# Altium footprint library 功率放大器.PcbLib: 2 footprints
Each footprint in its own frame and in the unit in brackets; x right, y up, seen from the top. Pads: shape width x height; smd on the part's side, far side on the other; paste and mask are expansions set on the pad; w line width, h text height; cw(c..) or ccw(c..) is an arc to the next point about the centre after c.
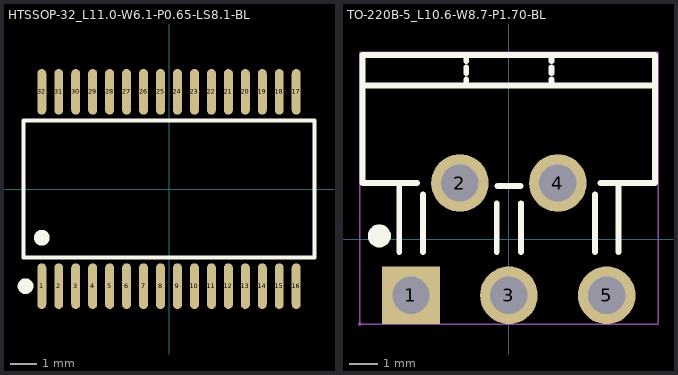
[diagram p0: the footprints below, top view; thin cyan lines are the x and y axes]

## HTSSOP-32_L11.0-W6.1-P0.65-LS8.1-BL [mm]
pads (32):
  oval 0.343x1.747 smd: 1(-4.875,-3.723) 2(-4.225,-3.723) 3(-3.575,-3.723) 4(-2.925,-3.723) 5(-2.275,-3.723) 6(-1.625,-3.723) 7(-0.975,-3.723) 8(-0.325,-3.723) 9(0.325,-3.723) 10(0.975,-3.723) 11(1.625,-3.723) 12(2.275,-3.723) 13(2.925,-3.723) 14(3.575,-3.723) 15(4.225,-3.723) 16(4.875,-3.723) 17(4.875,3.723) 18(4.225,3.723) 19(3.575,3.723) 20(2.925,3.723) 21(2.275,3.723) 22(1.625,3.723) 23(0.975,3.723) 24(0.325,3.723) 25(-0.325,3.723) 26(-0.975,3.723) 27(-1.625,3.723) 28(-2.275,3.723) 29(-2.925,3.723) 30(-3.575,3.723) 31(-4.225,3.723) 32(-4.875,3.723)
Top Overlay:
  circle w0.3: c-4.875,-1.869 r0.15
  circle w0.3: c-5.499,-3.723 r0.15
  lines w0.152: -5.576,-2.621 -5.576,2.622 5.576,2.622 5.576,-2.621 -5.576,-2.621
3D body "U1.step": height 1.3, standoff 0, extent -5.5,-4.056 5.5,4.056

## TO-220B-5_L10.6-W8.7-P1.70-BL [mm]
pads (5):
  rect 2x2 hole 1.3 paste-2539.97 mask+0.051: 1(-3.4,-1.95)
  round 2 hole 1.3 paste-2539.97 mask+0.051: 2(-1.7,1.95) 3(0,-1.95) 4(1.7,1.949) 5(3.4,-1.95)
Top Overlay:
  lines w0.2: -5.08,5.335 5.08,5.335 ; -3.81,-0.45 -3.81,1.949 ; -3.187,1.949 -5.08,1.949 -5.08,6.394 5.08,6.394 5.08,1.949 3.187,1.949 ; -2.987,-0.45 -2.987,1.55 ; -1.482,5.335 -1.482,5.547 ; -1.482,5.759 -1.482,5.97 ; -1.482,6.182 -1.482,6.394 ; -0.423,-0.45 -0.423,1.25 ; 0.423,-0.45 0.423,1.25 ; 1.482,5.335 1.482,5.547 ; 1.482,5.759 1.482,5.97 ; 1.482,6.182 1.482,6.394 ; 2.994,-0.45 2.994,1.55 ; 3.81,-0.45 3.81,1.949
  lines w0.203: -0.4,1.85 0.4,1.85
  lines w0.4: -4.501,0.311 ccw(c-4.498,0.111) -4.496,0.311
Mechanical 15:
  region: -5.12,-2.95 -5.12,-2.925 -5.155,-2.89 -5.205,-2.89 -5.24,-2.925 -5.24,-2.95 -5.24,-2.975 -5.205,-3.01 -5.155,-3.01 -5.12,-2.975 -5.12,-2.95
  region: 3.95,-1.95 3.95,-1.841 3.866,-1.638 3.712,-1.484 3.509,-1.4 3.291,-1.4 3.088,-1.484 2.934,-1.638 2.85,-1.841 2.85,-1.95 2.85,-2.059 2.934,-2.262 3.088,-2.416 3.291,-2.5 3.509,-2.5 3.712,-2.416 3.866,-2.262 3.95,-2.059 3.95,-1.95
  region: 2.25,1.949 2.25,2.059 2.166,2.261 2.012,2.416 1.809,2.5 1.591,2.5 1.388,2.416 1.234,2.261 1.15,2.059 1.15,1.949 1.15,1.84 1.234,1.638 1.388,1.483 1.591,1.399 1.809,1.399 2.012,1.483 2.166,1.638 2.25,1.84 2.25,1.949
  region: 0.55,-1.95 0.55,-1.841 0.466,-1.638 0.312,-1.484 0.109,-1.4 -0.109,-1.4 -0.312,-1.484 -0.466,-1.638 -0.55,-1.841 -0.55,-1.95 -0.55,-2.059 -0.466,-2.262 -0.312,-2.416 -0.109,-2.5 0.109,-2.5 0.312,-2.416 0.466,-2.262 0.55,-2.059 0.55,-1.95
  region: -1.15,1.95 -1.15,2.059 -1.234,2.262 -1.388,2.416 -1.591,2.5 -1.809,2.5 -2.012,2.416 -2.166,2.262 -2.25,2.059 -2.25,1.95 -2.25,1.841 -2.166,1.638 -2.012,1.484 -1.809,1.4 -1.591,1.4 -1.388,1.484 -1.234,1.638 -1.15,1.841 -1.15,1.95
  region: -2.85,-1.95 -2.85,-1.841 -2.934,-1.638 -3.088,-1.484 -3.291,-1.4 -3.509,-1.4 -3.712,-1.484 -3.866,-1.638 -3.95,-1.841 -3.95,-1.95 -3.95,-2.059 -3.866,-2.262 -3.712,-2.416 -3.509,-2.5 -3.291,-2.5 -3.088,-2.416 -2.934,-2.262 -2.85,-2.059 -2.85,-1.95
  lines w0.051: -5.18,-2.95 5.18,-2.95 5.18,6.494 -5.18,6.494 -5.18,-2.95
3D body "U3.step": height 20.3, standoff -5, extent -5.08,-2.149 5.08,6.261